# Altium schematic symbol library molex.SchLib: 1 symbol
Pins are listed as number, name and electrical type; pins without a type are passive.

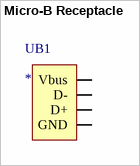
[diagram p0: symbol Micro-B Receptacle]

## Micro-B Receptacle
designator UB1
47346-0001
footprint 47346-0001 (USB Micro-B Receptacle)
pins: 1 Vbus, 2 D-, 3 D+, 5 GND